# EAGLE library part MAX9814 (library CC2530_PCB_TL - Backup Copy - DO NOT EDIT)
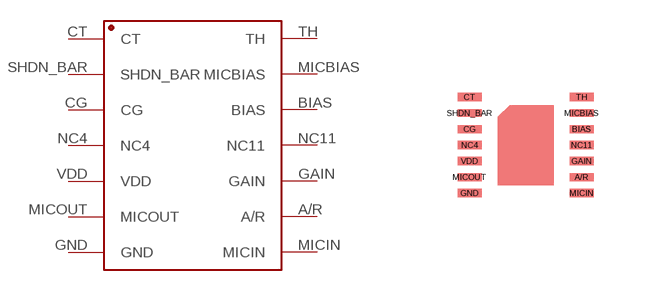
[diagram p5: symbol with the pads of MAX9814; footprint MAX9814]

Designator prefix -

## MAX9814  [MAX9814]
A/R  A/R  in
BIAS  BIAS  in
CG  CG  in
CT  CT  in
GAIN  GAIN  in
GND  GND  pwr
MICBIAS  MICBIAS  in
MICIN  MICIN  in
MICOUT  MICOUT  out
NC4  NC4  nc
NC11  NC11  nc
SHDN_BAR  SHDN_BAR  in
TH  TH  in
VDD  VDD  pwr

## Footprint MAX9814 (pad centres in mm)
smd 0.6 x 0.2: A/R 1.4,-0.8; BIAS 1.4,0.4; CG -1.4,0.4; CT -1.4,1.2; GAIN 1.4,-0.4; GND -1.4,-1.2; MICBIAS 1.4,0.8; MICIN 1.4,-1.2; MICOUT -1.4,-0.8; NC4 -1.4,0; NC11 1.4,0; SHDN_BAR -1.4,0.8; TH 1.4,1.2; VDD -1.4,-0.4